# Altium footprint library mxj_wwy.PcbLib: 18 footprints (part 2 of 2)
Each footprint in its own frame and in the unit in brackets; x right, y up, seen from the top. Pads: shape width x height; smd on the part's side, far side on the other; paste and mask are expansions set on the pad; w line width, h text height; cw(c..) or ccw(c..) is an arc to the next point about the centre after c.
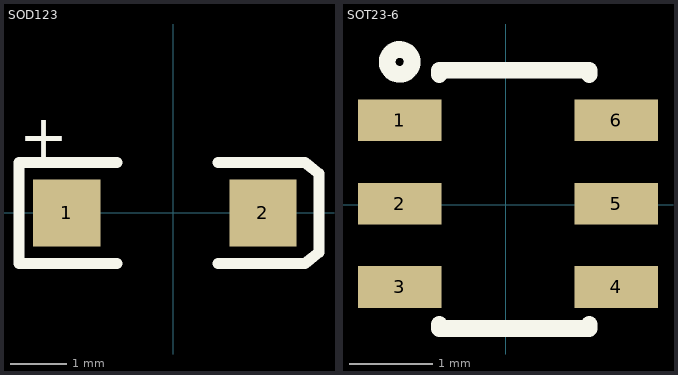
[diagram p1: the footprints below, top view; thin cyan lines are the x and y axes]

## SOD123 [mm]
pads (2):
  rect 1.2x1.2 smd: 1(-1.905,0) 2(1.595,0)
Top Overlay:
  lines w0.2: -1.005,-0.9 -2.755,-0.9 -2.755,0.9 -1.005,0.9 ; 0.795,-0.9 2.345,-0.9 2.595,-0.7 2.595,0.7 2.345,0.9 0.795,0.9
  text "+" at -2.754,0.992 h0.76
3D body: height 1.27, standoff 0, extent -1.955,-0.8 1.745,0.8

## SOT23-6 [mm]
pads (6):
  rect 1x0.5 smd: 1(-1.27,1.016) 2(-1.27,0.016) 3(-1.27,-0.984) 4(1.33,-0.984) 5(1.33,0.016) 6(1.33,1.016)
Top Overlay:
  circle w0.2: c-1.27,1.716 r0.15
  lines w0.2: -0.795,-1.434 -0.795,-1.484 1.005,-1.484 1.005,-1.434 ; -0.795,1.566 -0.795,1.616 1.005,1.616 1.005,1.566
3D body: height 1.3, standoff 0, extent -1.475,-1.5 1.525,1.5